# EAGLE library part IV-11 (library candrian)
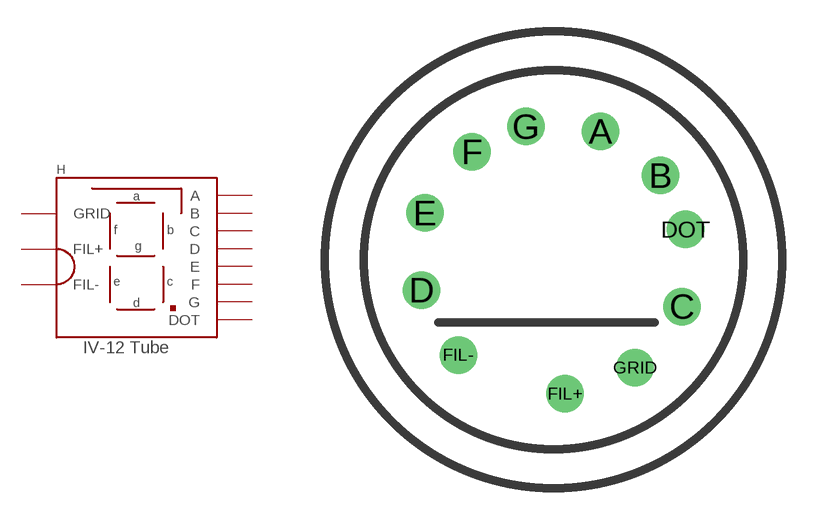
[diagram p9: symbol with the pads of IV-11; footprint IV-11]

Designator prefix H

## IV-11  [IV-11]
A  A
B  B
C  C
D  D
DOT  DOT
E  E
F  F
FIL+  FIL+
FIL-  FIL-
G  G
GRID  GRID

## Footprint IV-11 (pad centres in mm)
drill 0.8 pad 1.778: A 2.163,5.766; B 5.016,3.663; C 6.048,-2.565; D -6.332,-1.784; DOT 6.211,1.1; E -6.168,1.881; F -3.938,4.794; FIL+ 0.493,-6.716; FIL- -4.581,-4.869; G -1.374,5.989; GRID 3.817,-5.478